# Altium footprint library Footprints.PcbLib: 12 footprints
Each footprint in its own frame and in the unit in brackets; x right, y up, seen from the top. Pads: shape width x height; smd on the part's side, far side on the other; paste and mask are expansions set on the pad; w line width, h text height; cw(c..) or ccw(c..) is an arc to the next point about the centre after c.
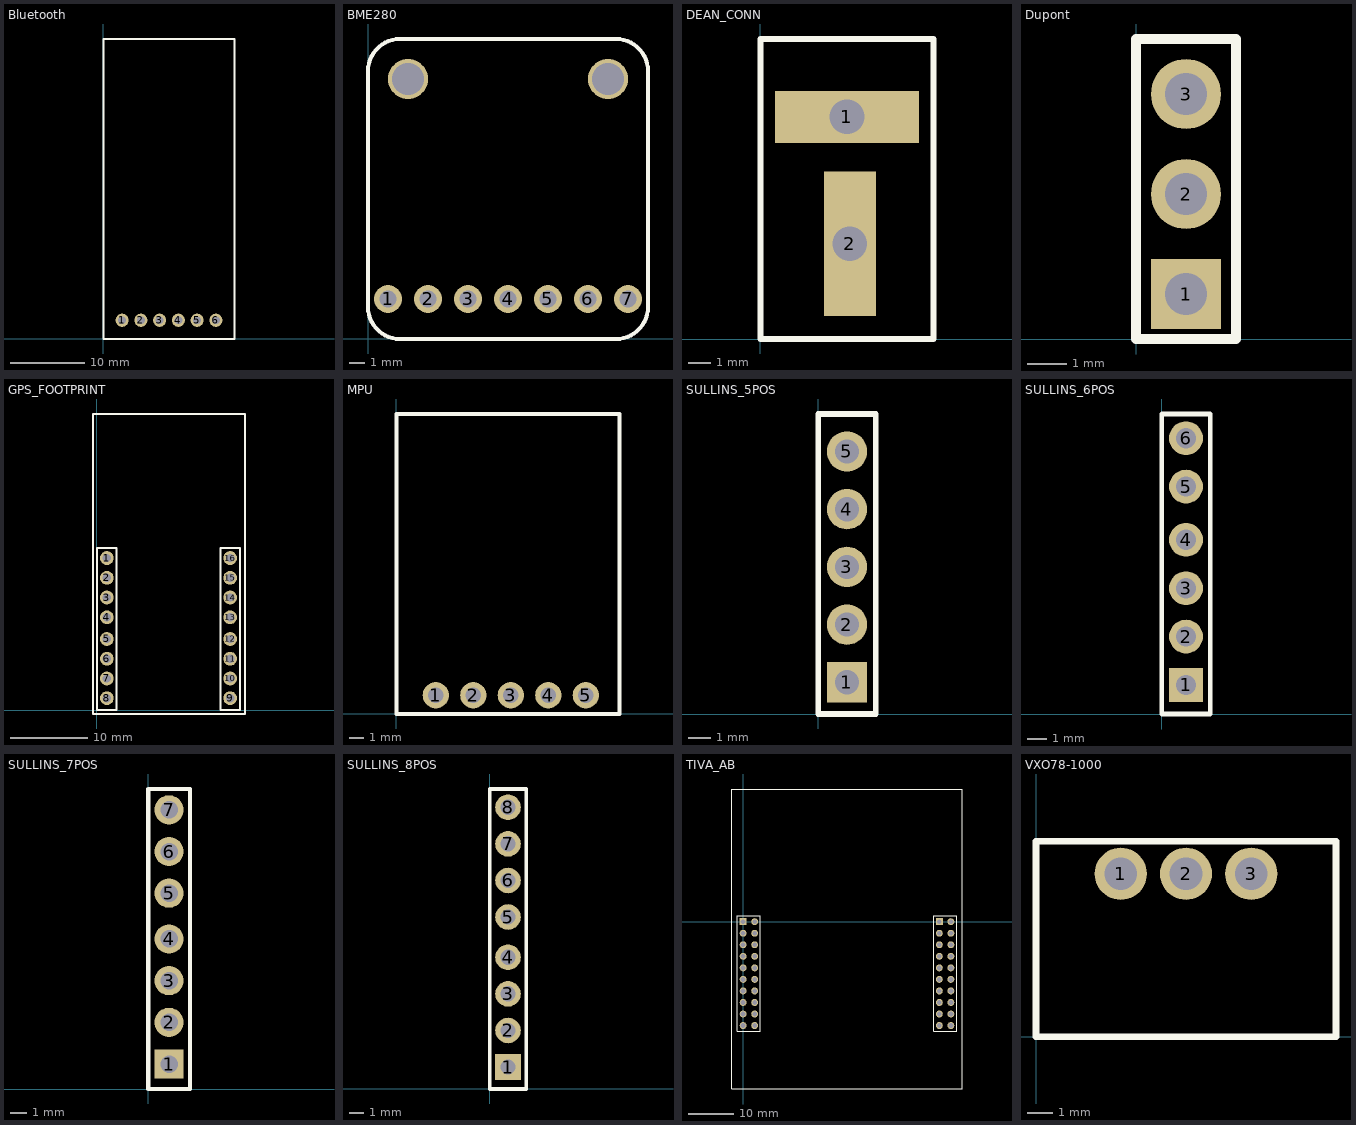
[diagram p0: the footprints below, top view; thin cyan lines are the x and y axes]

## Bluetooth [mil]
pads (6):
  round 70 hole 42: 1(100,100) 2(200,100) 3(300,100) 4(400,100) 5(500,100) 6(600,100)
Top Overlay:
  lines w10: 0,0 0,1600 700,1600 700,0 0,0

## BME280 [mil]
pads (9):
  round 70 hole 42: 1(50,100) 2(150,100) 3(250,100) 4(350,100) 5(450,100) 6(550,100) 7(650,100)
  round 100 hole 80: ""(100,650) ""(600,650)
Top Overlay:
  lines w10: 0,80 ccw(c80,80) 80,0 620,0 ccw(c620,80) 700,80 700,670 ccw(c620,670) 620,750 80,750 ccw(c80,670) 0,670 0,80

## DEAN_CONN [mil]
pads (2):
  rect 250x90 hole 60 square: 1(150,385)
  rect 90x250 hole 60 square: 2(155,165)
Top Overlay:
  lines w10: 0,0 0,520 300,520 300,0 0,0

## Dupont [mil]
pads (3):
  rect 70x70 hole 42 square: 1(50,45)
  round 70 hole 42: 2(50,145) 3(50,245)
Top Overlay:
  lines w10: 0,0 0,300 100,300 100,0 0,0

## GPS_FOOTPRINT [mil]
pads (16):
  round 70 hole 42: 1(50,770) 2(50,670) 3(50,570) 4(50,470) 5(50,360) 6(50,260) 7(50,160) 8(50,60) 9(675,60) 10(675,160) 11(675,260) 12(675,360) 13(675,470) 14(675,570) 15(675,670) 16(675,770)
Top Overlay:
  lines w10: -20,-20 -20,1500 750,1500 750,-20 -20,-20 ; 0,0 100,0 100,820 0,820 0,0 ; 625,0 725,0 725,820 625,820 625,0

## MPU [mil]
pads (5):
  round 70 hole 42: 1(105,50) 2(205,50) 3(305,50) 4(405,50) 5(505,50)
Top Overlay:
  lines w10: 0,0 595,0 595,800 0,800 0,0

## SULLINS_5POS [mil]
pads (5):
  rect 70x70 hole 42: 1(50,55)
  round 70 hole 42: 2(50,155) 3(50,255) 4(50,355) 5(50,455)
Top Overlay:
  lines w10: 0,0 0,520 100,520 100,0 0,0

## SULLINS_6POS [mil]
pads (6):
  rect 70x70 hole 42 square: 1(50,60)
  round 70 hole 42: 2(50,160) 3(50,260) 4(50,360) 5(50,470) 6(50,570)
Top Overlay:
  lines w10: 0,0 0,620 100,620 100,0 0,0

## SULLINS_7POS [mil]
pads (7):
  rect 70x70 hole 42 square: 1(50,60)
  round 70 hole 42: 2(50,160) 3(50,260) 4(50,360) 5(50,470) 6(50,570) 7(50,670)
Top Overlay:
  lines w10: 0,0 100,0 100,720 0,720 0,0

## SULLINS_8POS [mil]
pads (8):
  rect 70x70 hole 42 square: 1(50,60)
  round 70 hole 42: 2(50,160) 3(50,260) 4(50,360) 5(50,470) 6(50,570) 7(50,670) 8(50,770)
Top Overlay:
  lines w10: 0,0 0,820 100,820 100,0 0,0

## TIVA_AB [mil]
pads (40):
  rect 60x60 hole 42: 1(0,0) 21(1700,0)
  round 60 hole 42: 2(0,-100) 3(0,-200) 4(0,-300) 5(0,-400) 6(0,-500) 7(0,-600) 8(0,-700) 9(0,-800) 10(0,-900) 11(100,-900) 12(100,-800) 13(100,-700) 14(100,-600) 15(100,-500) 16(100,-400) 17(100,-300) 18(100,-200) 19(100,-100) 20(100,0) 22(1700,-100) 23(1700,-200) 24(1700,-300) 25(1700,-400) 26(1700,-500) 27(1700,-600) 28(1700,-700) 29(1700,-800) 30(1700,-900) 31(1800,-900) 32(1800,-800) 33(1800,-700) 34(1800,-600) 35(1800,-500) 36(1800,-400) 37(1800,-300) 38(1800,-200) 39(1800,-100) 40(1800,0)
Top Overlay:
  lines w10: -100,-1450 -100,1150 1900,1150 1900,-1450 -100,-1450 ; -50,-950 -50,50 150,50 150,-950 -50,-950 ; 1650,-950 1850,-950 1850,50 1650,50 1650,-950

## VXO78-1000 [mil]
pads (3):
  round 80 hole 50: 1(130,250) 2(230,250) 3(330,250)
Top Overlay:
  lines w10: 0,0 460,0 460,300 0,300 0,0